# EAGLE library part PIC32MX4X0F*L (library DodoMicroR2)
Microchip PIC32 USB 100 PIN
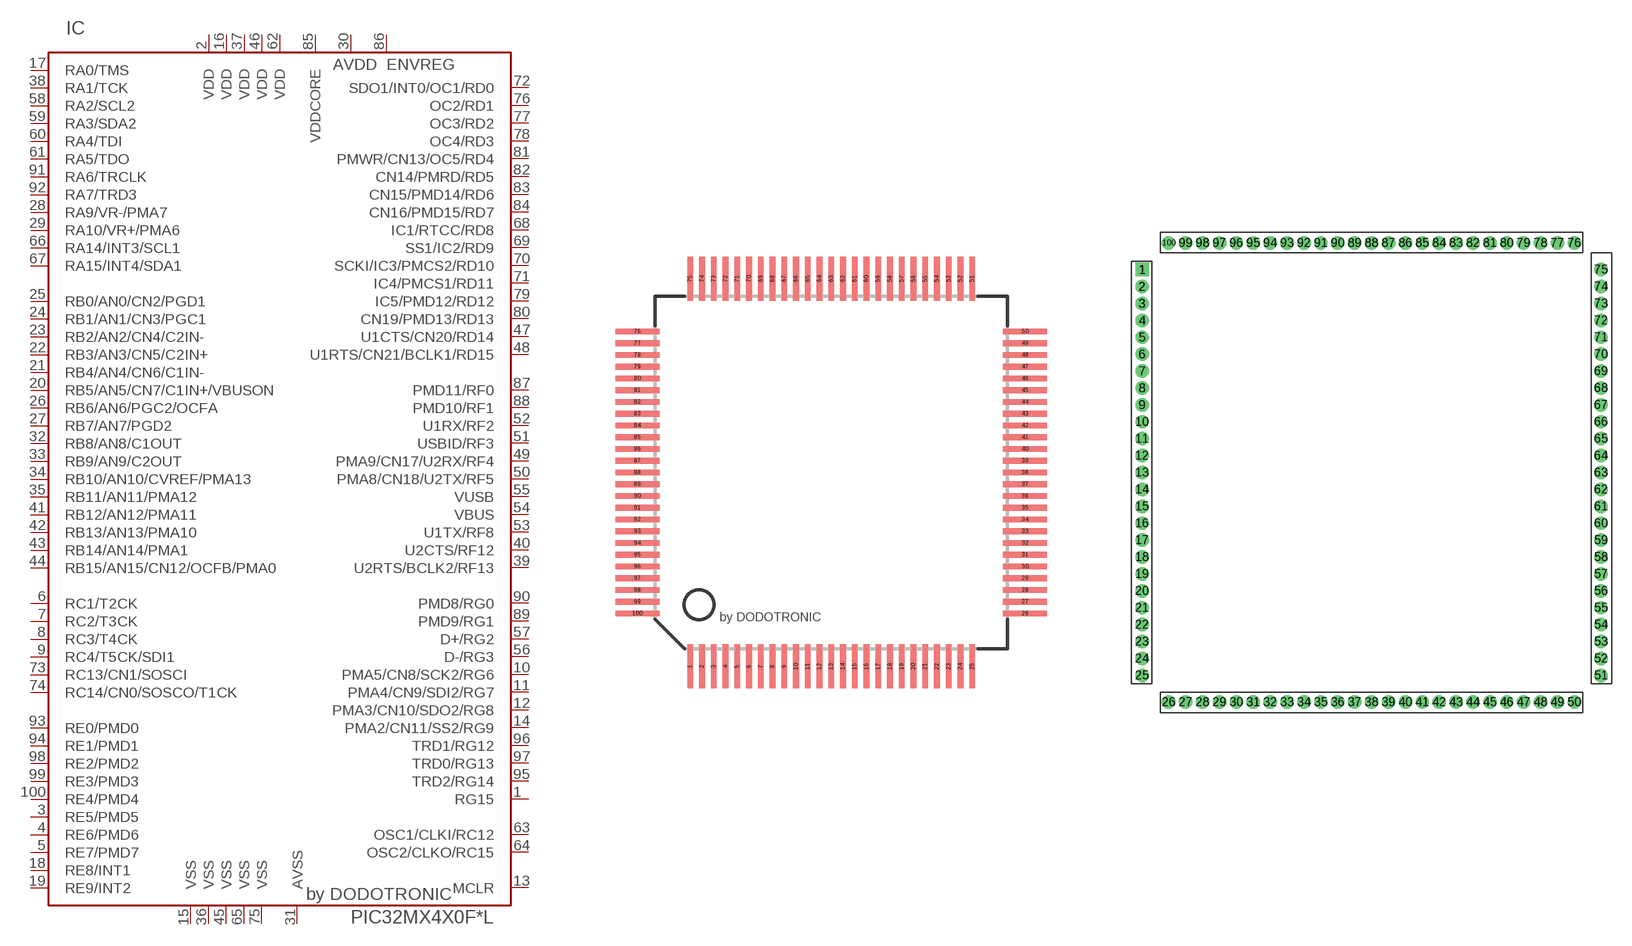
[diagram p5: symbol with the pads of TQFP100_12X12; footprints TQFP100_12X12, PIM100]

Designator prefix IC

## PIC32MX4X0F128L, PIC32MX4X0F256L, PIC32MX4X0F512L  [TQFP100_12X12]
1  RG15
2  VDD  sup
3  RE5/PMD5
4  RE6/PMD6
5  RE7/PMD7
6  RC1/T2CK
7  RC2/T3CK
8  RC3/T4CK
9  RC4/T5CK/SDI1
10  PMA5/CN8/SCK2/RG6
11  PMA4/CN9/SDI2/RG7
12  PMA3/CN10/SDO2/RG8
13  MCLR
14  PMA2/CN11/SS2/RG9
15  VSS  sup
16  VDD  sup
17  RA0/TMS
18  RE8/INT1
19  RE9/INT2
20  RB5/AN5/CN7/C1IN+/VBUSON
21  RB4/AN4/CN6/C1IN-
22  RB3/AN3/CN5/C2IN+
23  RB2/AN2/CN4/C2IN-
24  RB1/AN1/CN3/PGC1
25  RB0/AN0/CN2/PGD1
26  RB6/AN6/PGC2/OCFA
27  RB7/AN7/PGD2
28  RA9/VR-/PMA7
29  RA10/VR+/PMA6
30  AVDD
31  AVSS
32  RB8/AN8/C1OUT
33  RB9/AN9/C2OUT
34  RB10/AN10/CVREF/PMA13
35  RB11/AN11/PMA12
36  VSS  sup
37  VDD  sup
38  RA1/TCK
39  U2RTS/BCLK2/RF13
40  U2CTS/RF12
41  RB12/AN12/PMA11
42  RB13/AN13/PMA10
43  RB14/AN14/PMA1
44  RB15/AN15/CN12/OCFB/PMA0
45  VSS  sup
46  VDD  sup
47  U1CTS/CN20/RD14
48  U1RTS/CN21/BCLK1/RD15
49  PMA9/CN17/U2RX/RF4
50  PMA8/CN18/U2TX/RF5
51  USBID/RF3
52  U1RX/RF2
53  U1TX/RF8
54  VBUS
55  VUSB
56  D-/RG3
57  D+/RG2
58  RA2/SCL2
59  RA3/SDA2
60  RA4/TDI
61  RA5/TDO
62  VDD  sup
63  OSC1/CLKI/RC12
64  OSC2/CLKO/RC15
65  VSS  sup
66  RA14/INT3/SCL1
67  RA15/INT4/SDA1
68  IC1/RTCC/RD8
69  SS1/IC2/RD9
70  SCKI/IC3/PMCS2/RD10
71  IC4/PMCS1/RD11
72  SDO1/INT0/OC1/RD0
73  RC13/CN1/SOSCI
74  RC14/CN0/SOSCO/T1CK
75  VSS  sup
76  OC2/RD1
77  OC3/RD2
78  OC4/RD3
79  IC5/PMD12/RD12
80  CN19/PMD13/RD13
81  PMWR/CN13/OC5/RD4
82  CN14/PMRD/RD5
83  CN15/PMD14/RD6
84  CN16/PMD15/RD7
85  VDDCORE
86  ENVREG
87  PMD11/RF0
88  PMD10/RF1
89  PMD9/RG1
90  PMD8/RG0
91  RA6/TRCLK
92  RA7/TRD3
93  RE0/PMD0
94  RE1/PMD1
95  TRD2/RG14
96  TRD1/RG12
97  TRD0/RG13
98  RE2/PMD2
99  RE3/PMD3
100  RE4/PMD4

## PIC32MX4X0F128LPIM, PIC32MX4X0F256LPIM, PIC32MX4X0F512LPIM  [PIM100]
Pads as for TQFP100_12X12

## Footprint TQFP100_12X12 (pad centres in mm)
TQFP100 12 X 12 MM
smd 0.2 x 1.5: 1 -4.8,-6.6; 2 -4.4,-6.6; 3 -4,-6.6; 4 -3.6,-6.6; 5 -3.2,-6.6; 6 -2.8,-6.6; 7 -2.4,-6.6; 8 -2,-6.6; 9 -1.6,-6.6; 10 -1.2,-6.6; 11 -0.8,-6.6; 12 -0.4,-6.6; 13 0,-6.6; 14 0.4,-6.6; 15 0.8,-6.6; 16 1.2,-6.6; 17 1.6,-6.6; 18 2,-6.6; 19 2.4,-6.6; 20 2.8,-6.6; 21 3.2,-6.6; 22 3.6,-6.6; 23 4,-6.6; 24 4.4,-6.6; 25 4.8,-6.6; 51 4.8,6.6; 52 4.4,6.6; 53 4,6.6; 54 3.6,6.6; 55 3.2,6.6; 56 2.8,6.6; 57 2.4,6.6; 58 2,6.6; 59 1.6,6.6; 60 1.2,6.6; 61 0.8,6.6; 62 0.4,6.6; 63 0,6.6; 64 -0.4,6.6; 65 -0.8,6.6; 66 -1.2,6.6; 67 -1.6,6.6; 68 -2,6.6; 69 -2.4,6.6; 70 -2.8,6.6; 71 -3.2,6.6; 72 -3.6,6.6; 73 -4,6.6; 74 -4.4,6.6; 75 -4.8,6.6
smd 1.5 x 0.2: 26 6.6,-4.8; 27 6.6,-4.4; 28 6.6,-4; 29 6.6,-3.6; 30 6.6,-3.2; 31 6.6,-2.8; 32 6.6,-2.4; 33 6.6,-2; 34 6.6,-1.6; 35 6.6,-1.2; 36 6.6,-0.8; 37 6.6,-0.4; 38 6.6,0; 39 6.6,0.4; 40 6.6,0.8; 41 6.6,1.2; 42 6.6,1.6; 43 6.6,2; 44 6.6,2.4; 45 6.6,2.8; 46 6.6,3.2; 47 6.6,3.6; 48 6.6,4; 49 6.6,4.4; 50 6.6,4.8; 76 -6.6,4.8; 77 -6.6,4.4; 78 -6.6,4; 79 -6.6,3.6; 80 -6.6,3.2; 81 -6.6,2.8; 82 -6.6,2.4; 83 -6.6,2; 84 -6.6,1.6; 85 -6.6,1.2; 86 -6.6,0.8; 87 -6.6,0.4; 88 -6.6,0; 89 -6.6,-0.4; 90 -6.6,-0.8; 91 -6.6,-1.2; 92 -6.6,-1.6; 93 -6.6,-2; 94 -6.6,-2.4; 95 -6.6,-2.8; 96 -6.6,-3.2; 97 -6.6,-3.6; 98 -6.6,-4; 99 -6.6,-4.4; 100 -6.6,-4.8

## Footprint PIM100 (pad centres in mm)
Microchip PIM100 connector
drill 0.5 square: 1 -17.25,15.24
drill 0.5 round: 2 -17.25,13.97; 3 -17.25,12.7; 4 -17.25,11.43; 5 -17.25,10.16; 6 -17.25,8.89; 7 -17.25,7.62; 8 -17.25,6.35; 9 -17.25,5.08; 10 -17.25,3.81; 11 -17.25,2.54; 12 -17.25,1.27; 13 -17.25,0; 14 -17.25,-1.27; 15 -17.25,-2.54; 16 -17.25,-3.81; 17 -17.25,-5.08; 18 -17.25,-6.35; 19 -17.25,-7.62; 20 -17.25,-8.89; 21 -17.25,-10.16; 22 -17.25,-11.43; 23 -17.25,-12.7; 24 -17.25,-13.97; 25 -17.25,-15.24; 26 -15.24,-17.25; 27 -13.97,-17.25; 28 -12.7,-17.25; 29 -11.43,-17.25; 30 -10.16,-17.25; 31 -8.89,-17.25; 32 -7.62,-17.25; 33 -6.35,-17.25; 34 -5.08,-17.25; 35 -3.81,-17.25; 36 -2.54,-17.25; 37 -1.27,-17.25; 38 0,-17.25; 39 1.27,-17.25; 40 2.54,-17.25; 41 3.81,-17.25; 42 5.08,-17.25; 43 6.35,-17.25; 44 7.62,-17.25; 45 8.89,-17.25; 46 10.16,-17.25; 47 11.43,-17.25; 48 12.7,-17.25; 49 13.97,-17.25; 50 15.24,-17.25; 51 17.25,-15.24; 52 17.25,-13.97; 53 17.25,-12.7; 54 17.25,-11.43; 55 17.25,-10.16; 56 17.25,-8.89; 57 17.25,-7.62; 58 17.25,-6.35; 59 17.25,-5.08; 60 17.25,-3.81; 61 17.25,-2.54; 62 17.25,-1.27; 63 17.25,0; 64 17.25,1.27; 65 17.25,2.54; 66 17.25,3.81; 67 17.25,5.08; 68 17.25,6.35; 69 17.25,7.62; 70 17.25,8.89; 71 17.25,10.16; 72 17.25,11.43; 73 17.25,12.7; 74 17.25,13.97; 75 17.25,15.24; 76 15.24,17.25; 77 13.97,17.25; 78 12.7,17.25; 79 11.43,17.25; 80 10.16,17.25; 81 8.89,17.25; 82 7.62,17.25; 83 6.35,17.25; 84 5.08,17.25; 85 3.81,17.25; 86 2.54,17.25; 87 1.27,17.25; 88 0,17.25; 89 -1.27,17.25; 90 -2.54,17.25; 91 -3.81,17.25; 92 -5.08,17.25; 93 -6.35,17.25; 94 -7.62,17.25; 95 -8.89,17.25; 96 -10.16,17.25; 97 -11.43,17.25; 98 -12.7,17.25; 99 -13.97,17.25; 100 -15.24,17.25